# EAGLE library part SDS-50J (library MIDI Signal Conditioner Parts)
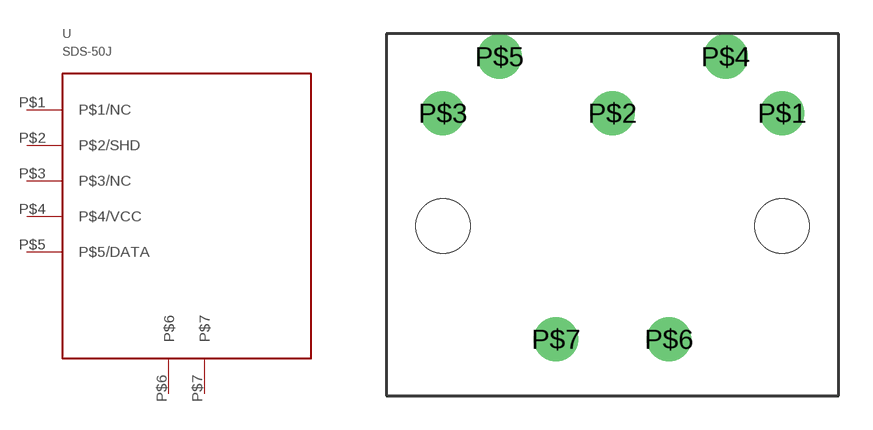
[diagram p1: symbol with the pads of SDS-50J; footprint SDS-50J]

Designator prefix -

## SDS-50J  [SDS-50J]
P$1  P$1/NC
P$2  P$2/SHD
P$3  P$3/NC
P$4  P$4/VCC
P$5  P$5/DATA
P$6  P$6
P$7  P$7

## Footprint SDS-50J (pad centres in mm)
drill 1.3: P$1 7.5,10; P$2 0,10; P$3 -7.5,10; P$4 5,12.5; P$5 -5,12.5; P$6 2.5,0; P$7 -2.5,0
hole 2.4 at -7.5,5
hole 2.4 at 7.5,5